# EAGLE library part SN75240 (library sn75240)
USB Port Transient Suppressor RS No: 709-1993 MRF No: SN75240PW
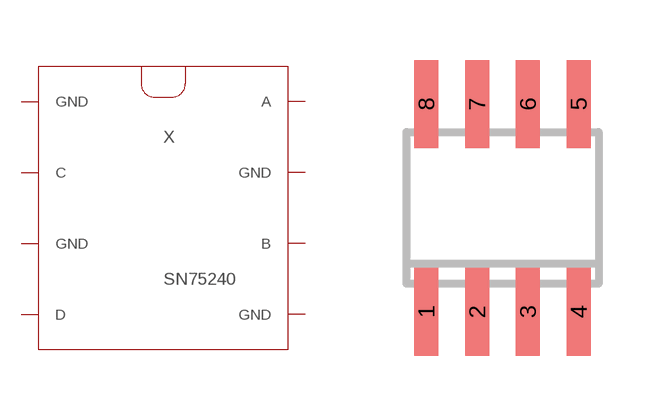
[diagram p0: symbol with the pads of SN75240; footprint SN75240]

Designator prefix X

## SN75240  [SN75240]
1  GND  pas
2  C  pas
3  GND  pas
4  D  pas
5  GND  pas
6  B  pas
7  GND  pas
8  A  pas

## Footprint SN75240 (pad centres in mm)
smd 0.6 x 2.2: 1 -1.905,-2.6; 2 -0.635,-2.6; 3 0.635,-2.6; 4 1.905,-2.6; 5 1.905,2.6; 6 0.635,2.6; 7 -0.635,2.6; 8 -1.905,2.6